# EAGLE library part 74*126 (library be_driver)
quad buffer tristate device with discrete gates drawn: Mario Blunk / Blunk electronic
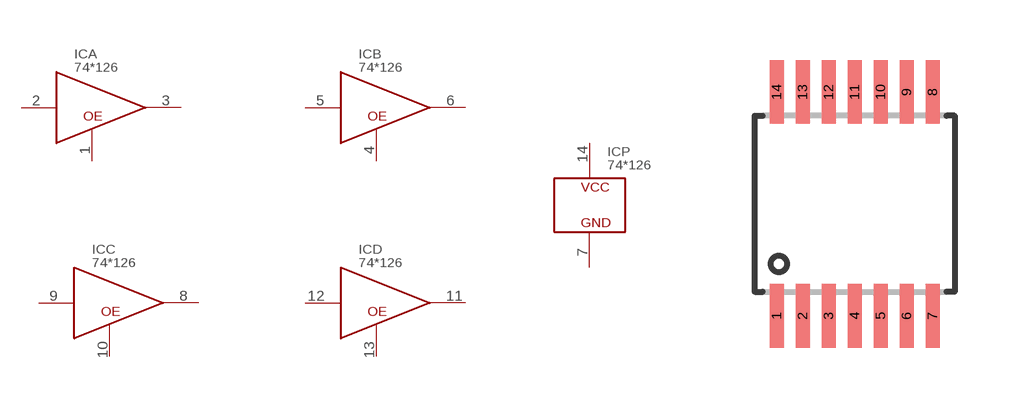
[diagram p2: symbol with the pads of S_TSSOP14; footprint S_TSSOP14]

Designator prefix IC; gates A=SINGLE_TRISTATE_H_ACTIVE B=SINGLE_TRISTATE_H_ACTIVE C=SINGLE_TRISTATE_H_ACTIVE D=SINGLE_TRISTATE_H_ACTIVE P=PWR

## 74LVC126-APW (BOM: YES; COMMISSIONED: 2013-03-25; PART_CODE_BEL: IC_PAC_S_TSSOP14_VAL_)  [S_TSSOP14]
1  A:!OE  in
2  A:A  in
3  A:Y  out
4  B:!OE  in
5  B:A  in
6  B:Y  out
7  P:GND  pwr
8  C:Y  out
9  C:A  in
10  C:!OE  in
11  D:Y  out
12  D:A  in
13  D:!OE  in
14  P:VCC  pwr

## Footprint S_TSSOP14 (pad centres in mm)
edited: Mario Blunk / Blunk electronic date: 2013-03-22
smd 0.35 x 1.6: 1 -1.95,-2.8; 2 -1.3,-2.8; 3 -0.65,-2.8; 4 0,-2.8; 5 0.65,-2.8; 6 1.3,-2.8; 7 1.95,-2.8; 8 1.95,2.8; 9 1.3,2.8; 10 0.65,2.8; 11 0,2.8; 12 -0.65,2.8; 13 -1.3,2.8; 14 -1.95,2.8